# EAGLE library part INA219 (library texas)
CURRENT MONITOR
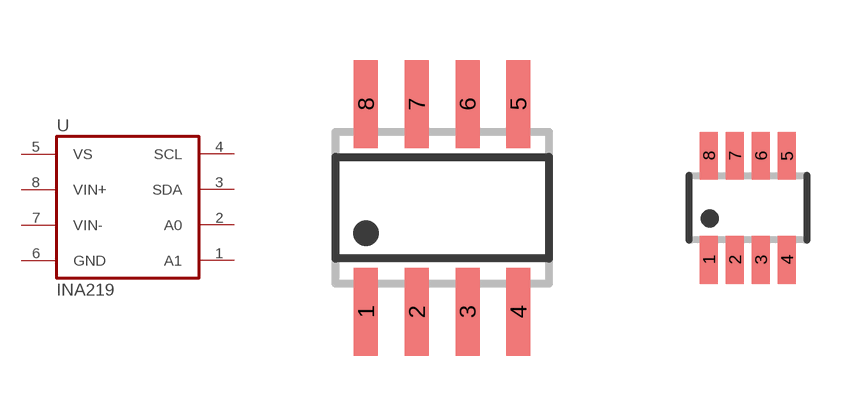
[diagram p118: symbol with the pads of SO08; footprints SO08, SOT23-8]

Designator prefix U

## INA219D  [SO08]
1  A1  in
2  A0  in
3  SDA
4  SCL  in
5  VS  pwr
6  GND  pwr
7  VIN-  in
8  VIN+  in

## INA219DCN  [SOT23-8]
1  VIN+  in
2  VIN-  in
3  GND  pwr
4  VS  pwr
5  SCL  in
6  SDA
7  A0  in
8  A1  in

## Footprint SO08 (pad centres in mm)
SMALL OUTLINE INTEGRATED CIRCUIT body 3.9 mm/JEDEC MS-012AA
smd 0.6 x 2.2: 1 -1.905,-2.6; 2 -0.635,-2.6; 3 0.635,-2.6; 4 1.905,-2.6; 5 1.905,2.6; 6 0.635,2.6; 7 -0.635,2.6; 8 -1.905,2.6

## Footprint SOT23-8 (pad centres in mm)
SOT-23 - DCN 0.65 mm pitch
smd 0.45 x 1.2: 1 -0.975,-1.3; 2 -0.325,-1.3; 3 0.325,-1.3; 4 0.975,-1.3; 5 0.975,1.3; 6 0.325,1.3; 7 -0.325,1.3; 8 -0.975,1.3